# Altium schematic symbol library SCH - POWER - SWITCHMODE - TI TPS61031PWP.SchLib: 1 symbol
Pins are listed as number, name and electrical type; pins without a type are passive.

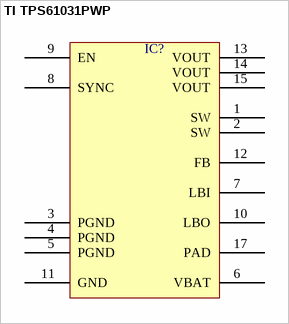
[diagram p0: symbol TI TPS61031PWP]

## TI TPS61031PWP
designator IC?  (value not drawn)
pins: 1 SW, 2 SW, 3 PGND, 4 PGND, 5 PGND, 6 VBAT, 7 LBI, 8 SYNC, 9 EN, 10 LBO, 11 GND, 12 FB, 13 VOUT, 14 VOUT, 15 VOUT, 17 PAD